# EAGLE library part LTC6957-3 (library ck)
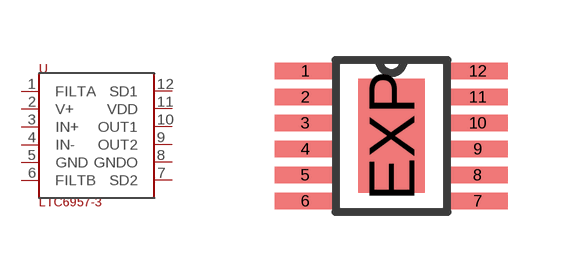
[diagram p13: symbol with the pads of MSOP-12; footprint MSOP-12]

Designator prefix U

## LTC6957-3  [MSOP-12]
1  FILTA  out
2  V+  out
3  IN+  out
4  IN-  out
5  GND  out
6  FILTB  out
7  SD2  out
8  GNDO  out
9  OUT2  out
10  OUT1  out
11  VDD  out
12  SD1  out

## Footprint MSOP-12 (pad centres in mm)
smd 1.5 x 0.42: 1 -2.163,1.625; 2 -2.163,0.975; 3 -2.163,0.325; 4 -2.163,-0.325; 5 -2.163,-0.975; 6 -2.163,-1.625; 7 2.15,-1.625; 8 2.15,-0.975; 9 2.15,-0.325; 10 2.15,0.325; 11 2.15,0.975; 12 2.15,1.625
smd 1.65 x 2.85: EXP 0,0